# Altium footprint library LM35.PcbLib: 1 footprints
Each footprint in its own frame and in the unit in brackets; x right, y up, seen from the top. Pads: shape width x height; smd on the part's side, far side on the other; paste and mask are expansions set on the pad; w line width, h text height; cw(c..) or ccw(c..) is an arc to the next point about the centre after c.
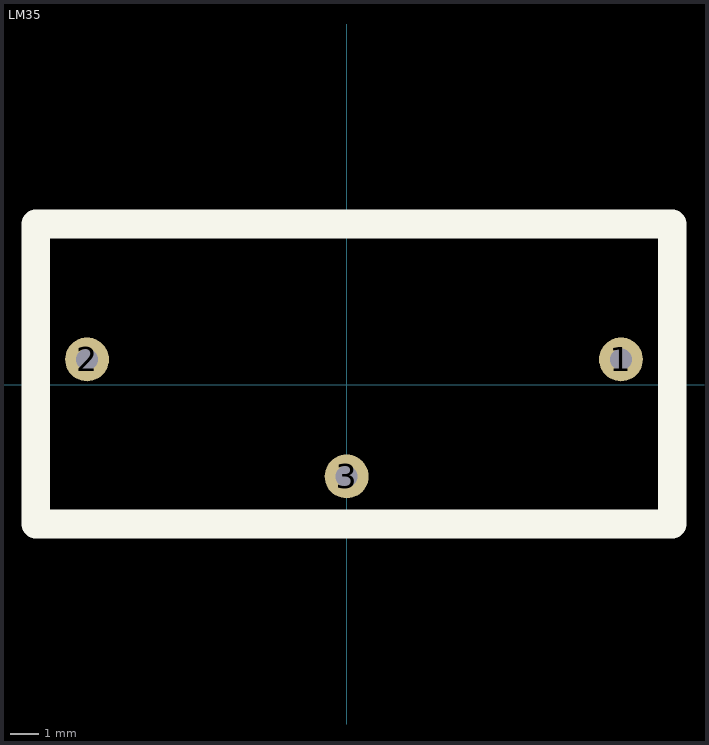
[diagram p0: the footprint, top view; thin cyan lines are the x and y axes]

## LM35 [mil]
pads (3):
  round 60 hole 30: 1(375,35) 2(-355,35) 3(0,-125)
Top Overlay:
  lines w39.37: -425,-190 -425,220 445,220 445,-190 -425,-190